# EAGLE library part 105164-0001 (library 105164-0001)
USB - micro B USB 2.0 Receptacle Connector 5 Position Surface Mount, Right Angle; Through Hole Source: Datasheet <https://www.molex.com/pdm_docs/sd/1051640001_sd.pdf>
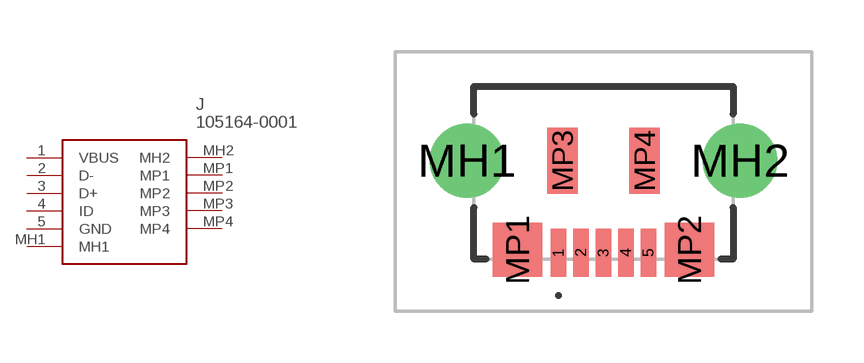
[diagram p0: symbol with the pads of 1051640001; footprint 1051640001]

Designator prefix J

## 105164-0001 (Description: USB - micro B USB 2.0 Receptacle Connector 5 Position Surface Mount, Right Angle; Through Hole; Height: 2.7mm; Manufacturer_Name: Molex; Manufacturer_Part_Number: 105164-0001; Mouser_Part_Number: 538-105164-0001; Mouser_Price-Stock: https://www.mouser.co.uk/ProductDetail/Molex/105164-0001?qs=JAwGc6FMfvtRY4SkW%2FoGcQ%3D%3D)  [1051640001]
1  VBUS
2  D-
3  D+
4  ID
5  GND
MH1  MH1
MH2  MH2
MP1  MP1
MP2  MP2
MP3  MP3
MP4  MP4

## Footprint 1051640001 (pad centres in mm)
105164-0001-1
smd 0.45 x 1.38: 1 -1.3,-2.31; 2 -0.65,-2.31; 3 0,-2.31; 4 0.65,-2.31; 5 1.3,-2.31
drill 1.43 pad 2.145: MH1 -3.95,0.35; MH2 3.95,0.35
smd 1.425 x 1.55: MP1 -2.487,-2.225; MP2 2.487,-2.225
smd 0.875 x 1.9: MP3 -1.188,0.35; MP4 1.188,0.35